# EAGLE library part 2X4-SMD (library Strutz Electronic Industries)
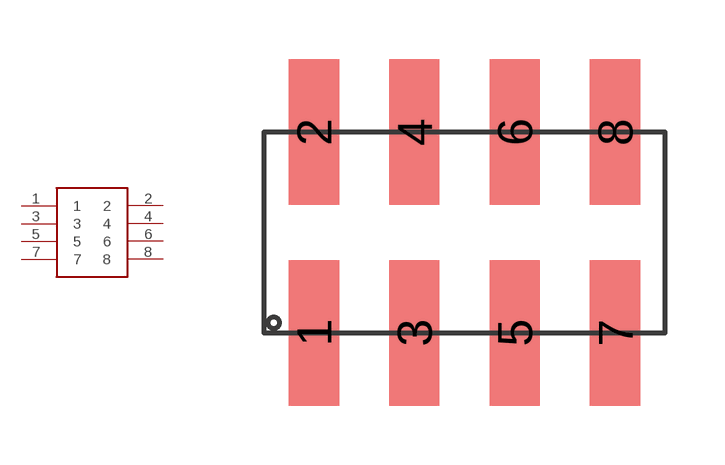
[diagram p42: symbol with the pads of 2X4-SMD; footprint 2X4-SMD]

Designator prefix -

## 2X4-SMD  [2X4-SMD]
1  1
2  2
3  3
4  4
5  5
6  6
7  7
8  8

## Footprint 2X4-SMD (pad centres in mm)
smd 1.27 x 3.683: 1 -2.54,-2.54; 2 -2.54,2.54; 3 0,-2.54; 4 0,2.54; 5 2.54,-2.54; 6 2.54,2.54; 7 5.08,-2.54; 8 5.08,2.54